# EAGLE library part STM32F42X_43X_LQFP176 (library EagleParts)
STM32F42x_43x_LQFP176 edit this description Auto generated by make-symbol-device-package-bsdl.ulp Rev. 43 Source: STM32F42x_43x_LQFP176.bsd
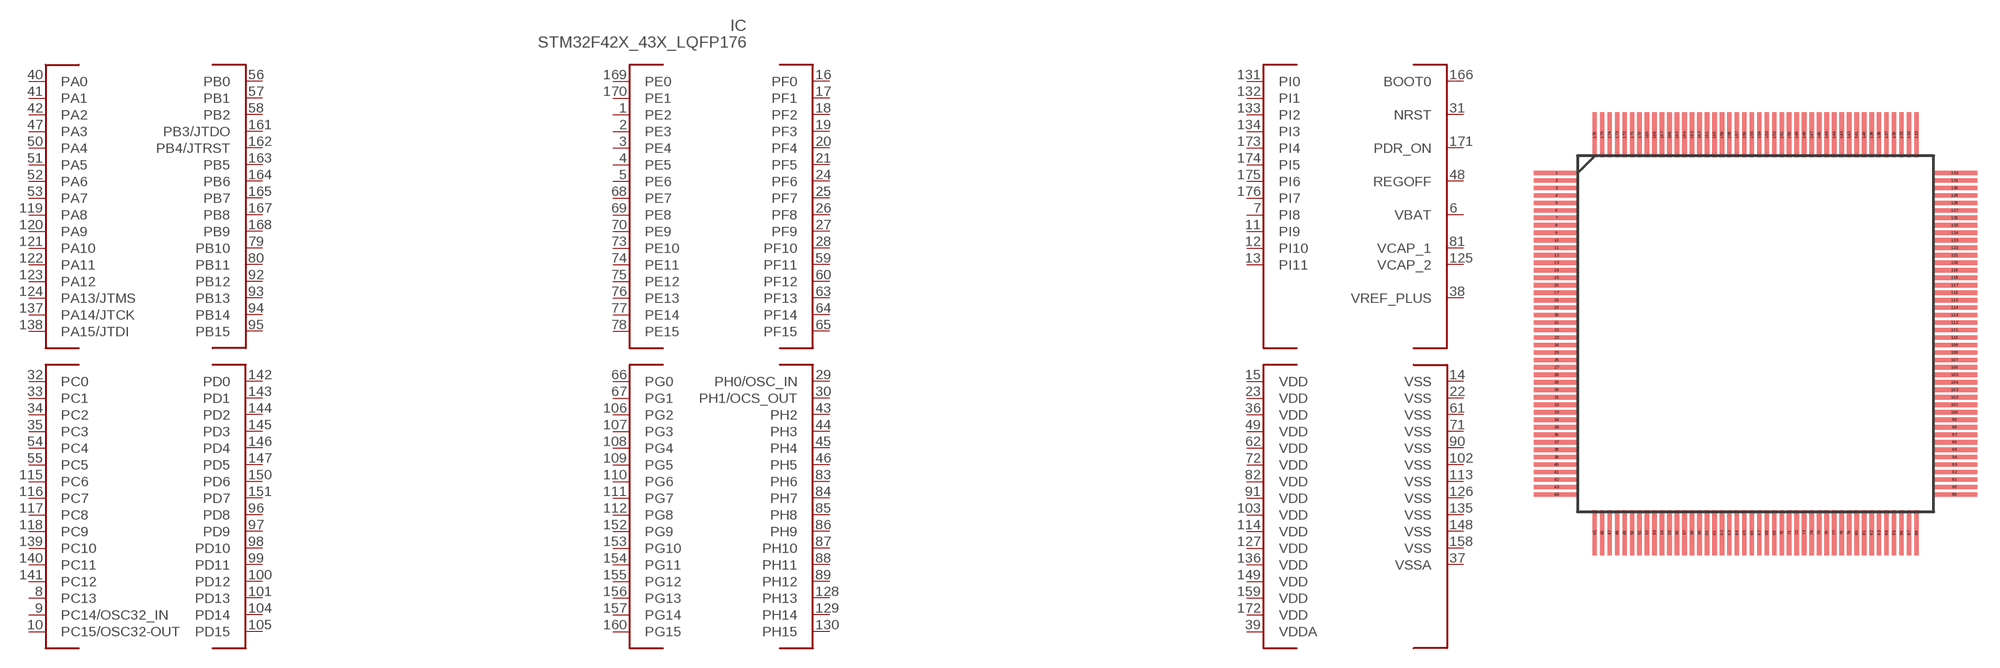
[diagram p5: symbol with the pads of LQFP176_PACKAGE; footprint LQFP176_PACKAGE]

Designator prefix IC

## STM32F42X_43X_LQFP176  [LQFP176_PACKAGE]
1  PE2
2  PE3
3  PE4
4  PE5
5  PE6
6  VBAT  pas
7  PI8
8  PC13
9  PC14/OSC32_IN
10  PC15/OSC32-OUT
11  PI9
12  PI10
13  PI11
14  VSS  pwr
15  VDD  pwr
16  PF0
17  PF1
18  PF2
19  PF3
20  PF4
21  PF5
22  VSS  pwr
23  VDD  pwr
24  PF6
25  PF7
26  PF8
27  PF9
28  PF10
29  PH0/OSC_IN
30  PH1/OCS_OUT
31  NRST  in
32  PC0
33  PC1
34  PC2
35  PC3
36  VDD  pwr
37  VSSA  pwr
38  VREF_PLUS  pas
39  VDDA  pwr
40  PA0
41  PA1
42  PA2
43  PH2
44  PH3
45  PH4
46  PH5
47  PA3
48  REGOFF  pas
49  VDD  pwr
50  PA4
51  PA5
52  PA6
53  PA7
54  PC4
55  PC5
56  PB0
57  PB1
58  PB2
59  PF11
60  PF12
61  VSS  pwr
62  VDD  pwr
63  PF13
64  PF14
65  PF15
66  PG0
67  PG1
68  PE7
69  PE8
70  PE9
71  VSS  pwr
72  VDD  pwr
73  PE10
74  PE11
75  PE12
76  PE13
77  PE14
78  PE15
79  PB10
80  PB11
81  VCAP_1  pas
82  VDD  pwr
83  PH6
84  PH7
85  PH8
86  PH9
87  PH10
88  PH11
89  PH12
90  VSS  pwr
91  VDD  pwr
92  PB12
93  PB13
94  PB14
95  PB15
96  PD8
97  PD9
98  PD10
99  PD11
100  PD12
101  PD13
102  VSS  pwr
103  VDD  pwr
104  PD14
105  PD15
106  PG2
107  PG3
108  PG4
109  PG5
110  PG6
111  PG7
112  PG8
113  VSS  pwr
114  VDD  pwr
115  PC6
116  PC7
117  PC8
118  PC9
119  PA8
120  PA9
121  PA10
122  PA11
123  PA12
124  PA13/JTMS  in
125  VCAP_2  pas
126  VSS  pwr
127  VDD  pwr
128  PH13
129  PH14
130  PH15
131  PI0
132  PI1
133  PI2
134  PI3
135  VSS  pwr
136  VDD  pwr
137  PA14/JTCK  in
138  PA15/JTDI  in
139  PC10
140  PC11
141  PC12
142  PD0
143  PD1
144  PD2
145  PD3
146  PD4
147  PD5
148  VSS  pwr
149  VDD  pwr
150  PD6
151  PD7
152  PG9
153  PG10
154  PG11
155  PG12
156  PG13
157  PG14
158  VSS  pwr
159  VDD  pwr
160  PG15
161  PB3/JTDO  out
162  PB4/JTRST  in
163  PB5
164  PB6
165  PB7
166  BOOT0  in
167  PB8
168  PB9
169  PE0
170  PE1
171  PDR_ON  pas
172  VDD  pwr
173  PI4
174  PI5
175  PI6
176  PI7

## Footprint LQFP176_PACKAGE (pad centres in mm)
LQFP176_PACKAGE Auto generated by make-symbol-device-package-bsdl.ulp Rev. 43
smd 3 x 0.3: 1 -13.3,10.75; 2 -13.3,10.25; 3 -13.3,9.75; 4 -13.3,9.25; 5 -13.3,8.75; 6 -13.3,8.25; 7 -13.3,7.75; 8 -13.3,7.25; 9 -13.3,6.75; 10 -13.3,6.25; 11 -13.3,5.75; 12 -13.3,5.25; 13 -13.3,4.75; 14 -13.3,4.25; 15 -13.3,3.75; 16 -13.3,3.25; 17 -13.3,2.75; 18 -13.3,2.25; 19 -13.3,1.75; 20 -13.3,1.25; 21 -13.3,0.75; 22 -13.3,0.25; 23 -13.3,-0.25; 24 -13.3,-0.75; 25 -13.3,-1.25; 26 -13.3,-1.75; 27 -13.3,-2.25; 28 -13.3,-2.75; 29 -13.3,-3.25; 30 -13.3,-3.75; 31 -13.3,-4.25; 32 -13.3,-4.75; 33 -13.3,-5.25; 34 -13.3,-5.75; 35 -13.3,-6.25; 36 -13.3,-6.75; 37 -13.3,-7.25; 38 -13.3,-7.75; 39 -13.3,-8.25; 40 -13.3,-8.75; 41 -13.3,-9.25; 42 -13.3,-9.75; 43 -13.3,-10.25; 44 -13.3,-10.75; 89 13.3,-10.75; 90 13.3,-10.25; 91 13.3,-9.75; 92 13.3,-9.25; 93 13.3,-8.75; 94 13.3,-8.25; 95 13.3,-7.75; 96 13.3,-7.25; 97 13.3,-6.75; 98 13.3,-6.25; 99 13.3,-5.75; 100 13.3,-5.25; 101 13.3,-4.75; 102 13.3,-4.25; 103 13.3,-3.75; 104 13.3,-3.25; 105 13.3,-2.75; 106 13.3,-2.25; 107 13.3,-1.75; 108 13.3,-1.25; 109 13.3,-0.75; 110 13.3,-0.25; 111 13.3,0.25; 112 13.3,0.75; 113 13.3,1.25; 114 13.3,1.75; 115 13.3,2.25; 116 13.3,2.75; 117 13.3,3.25; 118 13.3,3.75; 119 13.3,4.25; 120 13.3,4.75; 121 13.3,5.25; 122 13.3,5.75; 123 13.3,6.25; 124 13.3,6.75; 125 13.3,7.25; 126 13.3,7.75; 127 13.3,8.25; 128 13.3,8.75; 129 13.3,9.25; 130 13.3,9.75; 131 13.3,10.25; 132 13.3,10.75
smd 0.3 x 3: 45 -10.75,-13.3; 46 -10.25,-13.3; 47 -9.75,-13.3; 48 -9.25,-13.3; 49 -8.75,-13.3; 50 -8.25,-13.3; 51 -7.75,-13.3; 52 -7.25,-13.3; 53 -6.75,-13.3; 54 -6.25,-13.3; 55 -5.75,-13.3; 56 -5.25,-13.3; 57 -4.75,-13.3; 58 -4.25,-13.3; 59 -3.75,-13.3; 60 -3.25,-13.3; 61 -2.75,-13.3; 62 -2.25,-13.3; 63 -1.75,-13.3; 64 -1.25,-13.3; 65 -0.75,-13.3; 66 -0.25,-13.3; 67 0.25,-13.3; 68 0.75,-13.3; 69 1.25,-13.3; 70 1.75,-13.3; 71 2.25,-13.3; 72 2.75,-13.3; 73 3.25,-13.3; 74 3.75,-13.3; 75 4.25,-13.3; 76 4.75,-13.3; 77 5.25,-13.3; 78 5.75,-13.3; 79 6.25,-13.3; 80 6.75,-13.3; 81 7.25,-13.3; 82 7.75,-13.3; 83 8.25,-13.3; 84 8.75,-13.3; 85 9.25,-13.3; 86 9.75,-13.3; 87 10.25,-13.3; 88 10.75,-13.3; 133 10.75,13.3; 134 10.25,13.3; 135 9.75,13.3; 136 9.25,13.3; 137 8.75,13.3; 138 8.25,13.3; 139 7.75,13.3; 140 7.25,13.3; 141 6.75,13.3; 142 6.25,13.3; 143 5.75,13.3; 144 5.25,13.3; 145 4.75,13.3; 146 4.25,13.3; 147 3.75,13.3; 148 3.25,13.3; 149 2.75,13.3; 150 2.25,13.3; 151 1.75,13.3; 152 1.25,13.3; 153 0.75,13.3; 154 0.25,13.3; 155 -0.25,13.3; 156 -0.75,13.3; 157 -1.25,13.3; 158 -1.75,13.3; 159 -2.25,13.3; 160 -2.75,13.3; 161 -3.25,13.3; 162 -3.75,13.3; 163 -4.25,13.3; 164 -4.75,13.3; 165 -5.25,13.3; 166 -5.75,13.3; 167 -6.25,13.3; 168 -6.75,13.3; 169 -7.25,13.3; 170 -7.75,13.3; 171 -8.25,13.3; 172 -8.75,13.3; 173 -9.25,13.3; 174 -9.75,13.3; 175 -10.25,13.3; 176 -10.75,13.3